# Altium schematic symbol library 中央处理器.SchLib: 12 symbols
Pins are listed as number, name and electrical type; pins without a type are passive.

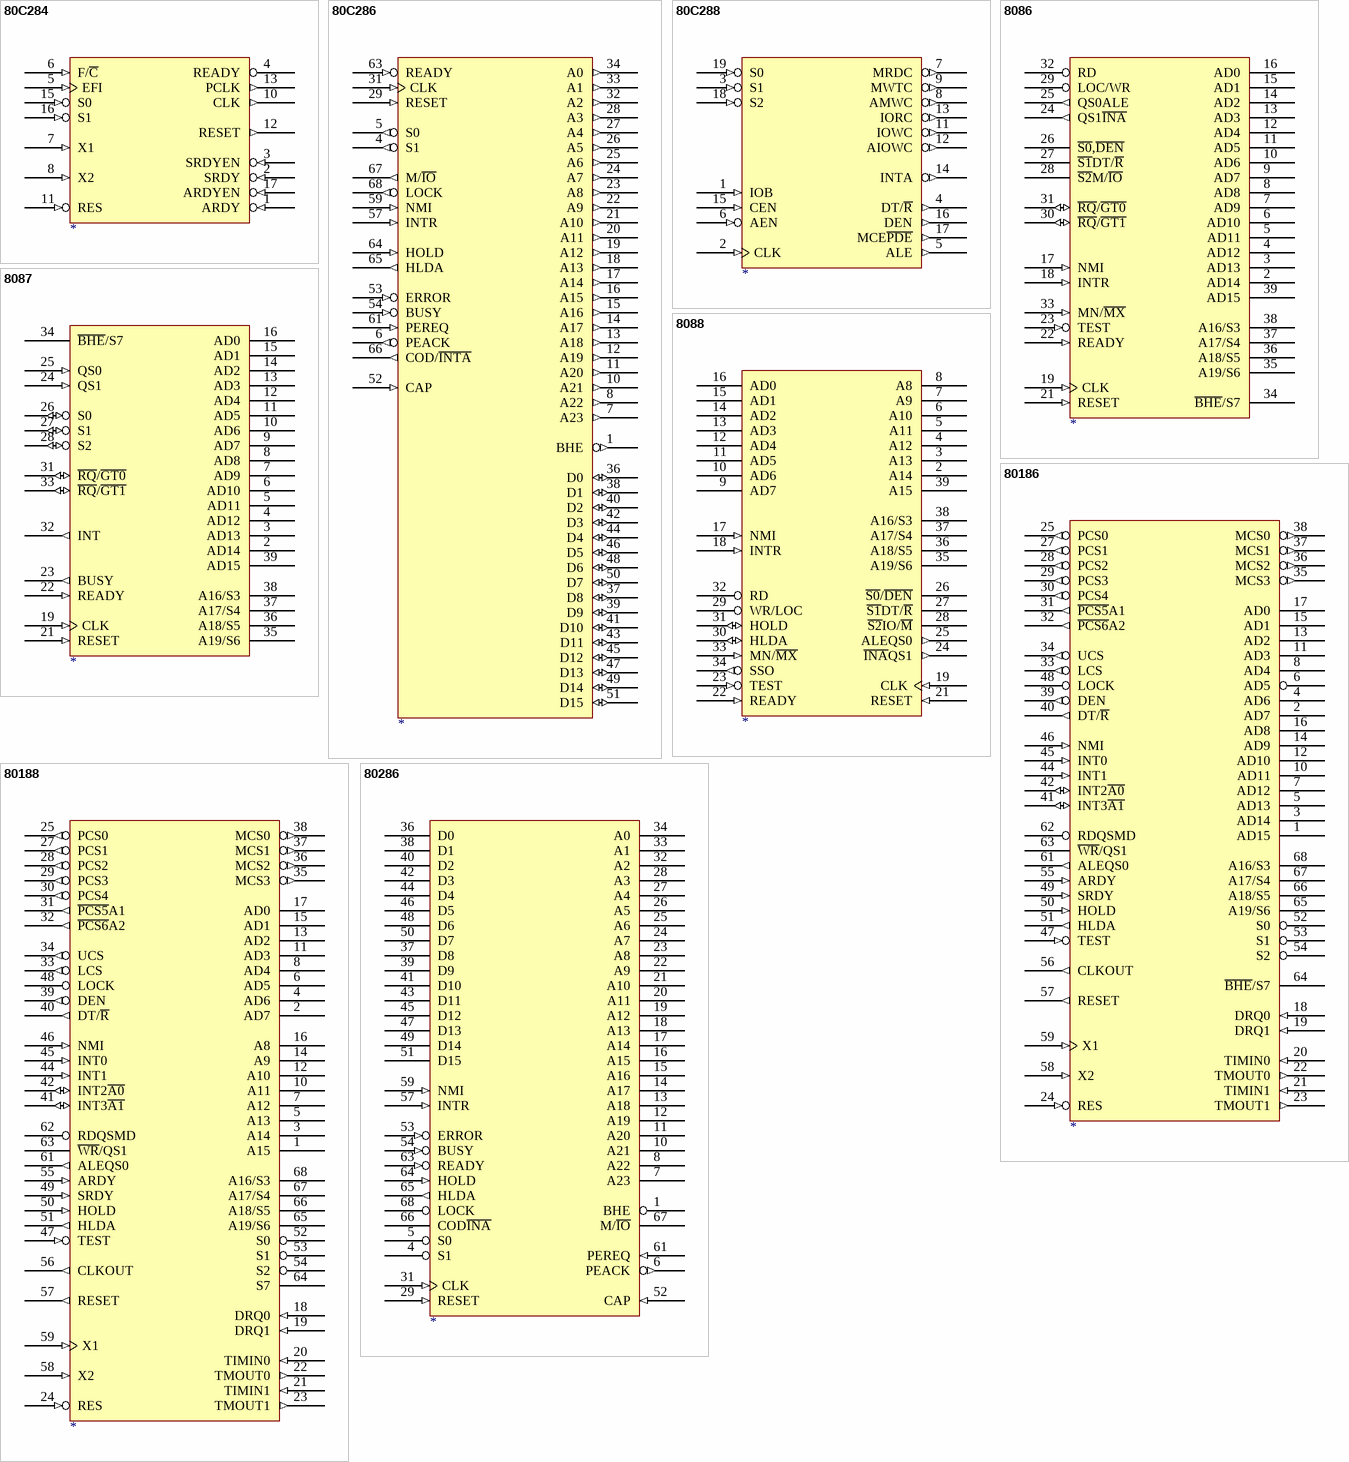
[diagram p0: symbols 80C284 to 80286]

## 80C284
designator ?
pins: 1 ARDY (in), 2 SRDY (in), 3 SRDYEN (in), 4 READY (oc), 5 EFI (in), 6 F/~{C} (in), 7 X1 (in), 8 X2 (in), 10 CLK (out), 11 RES (in), 12 RESET (out), 13 PCLK (out), 15 S0 (in), 16 S1 (in), 17 ARDYEN (in)

## 80C286
designator ?
pins: 1 BHE (out), 4 S1 (out), 5 S0 (out), 6 PEACK (out), 7 A23 (out), 8 A22 (out), 10 A21 (out), 11 A20 (out), 12 A19 (out), 13 A18 (out), 14 A17 (out), 15 A16 (out), 16 A15 (out), 17 A14 (out), 18 A13 (out), 19 A12 (out), 20 A11 (out), 21 A10 (out), 22 A9 (out), 23 A8 (out), 24 A7 (out), 25 A6 (out), 26 A5 (out), 27 A4 (out), 28 A3 (out), 29 RESET (in), 31 CLK (in), 32 A2 (out), 33 A1 (out), 34 A0 (out), 36 D0 (io), 37 D8 (io), 38 D1 (io), 39 D9 (io), 40 D2 (io), 41 D10 (io), 42 D3 (io), 43 D11 (io), 44 D4 (io), 45 D12 (io), 46 D5 (io), 47 D13 (io), 48 D6 (io), 49 D14 (io), 50 D7 (io), 51 D15 (io), 52 CAP (in), 53 ERROR (in), 54 BUSY (in), 57 INTR (in), 59 NMI (in), 61 PEREQ (in), 63 READY (in), 64 HOLD (in), 65 HLDA (out), 66 COD/~{INTA} (out), 67 M/~{IO} (out), 68 LOCK (out)

## 80C288
designator ?
pins: 1 IOB (in), 2 CLK (in), 3 S1 (in), 4 DT/~{R} (out), 5 ALE (out), 6 AEN (in), 7 MRDC (out), 8 AMWC (out), 9 MWTC (out), 11 IOWC (out), 12 AIOWC (out), 13 IORC (out), 14 INTA (out), 15 CEN (in), 16 DEN (out), 17 MCE~{PDE} (out), 18 S2 (in), 19 S0 (in)

## 8086
designator ?
pins: 2 AD14 (hiz), 3 AD13 (hiz), 4 AD12 (hiz), 5 AD11 (hiz), 6 AD10 (hiz), 7 AD9 (hiz), 8 AD8 (hiz), 9 AD7 (hiz), 10 AD6 (hiz), 11 AD5 (hiz), 12 AD4 (hiz), 13 AD3 (hiz), 14 AD2 (hiz), 15 AD1 (hiz), 16 AD0 (hiz), 17 NMI (in), 18 INTR (in), 19 CLK (in), 21 RESET (in), 22 READY (in), 23 TEST (in), 24 QS1~{INA} (out), 25 QS0ALE (out), 26 ~{S0},~{DEN} (hiz), 27 ~{S1}DT/~{R} (hiz), 28 ~{S2}M/~{IO} (hiz), 29 LOC/WR (hiz), 30 ~{RQ}/~{GT1} (io), 31 ~{RQ}/~{GT0} (io), 32 RD (hiz), 33 MN/~{MX} (in), 34 ~{BHE}/S7 (hiz), 35 A19/S6 (hiz), 36 A18/S5 (hiz), 37 A17/S4 (hiz), 38 A16/S3 (hiz), 39 AD15 (hiz)

## 8087
designator ?
pins: 2 AD14 (hiz), 3 AD13 (hiz), 4 AD12 (hiz), 5 AD11 (hiz), 6 AD10 (hiz), 7 AD9 (hiz), 8 AD8 (hiz), 9 AD7 (hiz), 10 AD6 (hiz), 11 AD5 (hiz), 12 AD4 (hiz), 13 AD3 (hiz), 14 AD2 (hiz), 15 AD1 (hiz), 16 AD0 (hiz), 19 CLK (in), 21 RESET (in), 22 READY (in), 23 BUSY (out), 24 QS1 (in), 25 QS0 (in), 26 S0 (io), 27 S1 (io), 28 S2 (io), 31 ~{RQ}/~{GT0} (io), 32 INT (out), 33 ~{RQ}/~{GT1} (io), 34 ~{BHE}/S7 (hiz), 35 A19/S6 (hiz), 36 A18/S5 (hiz), 37 A17/S4 (hiz), 38 A16/S3 (hiz), 39 AD15 (hiz)

## 8088
designator ?
pins: 1 GND (power) hidden to GND, 2 A14 (hiz), 3 A13 (hiz), 4 A12 (hiz), 5 A11 (hiz), 6 A10 (hiz), 7 A9 (hiz), 8 A8 (hiz), 9 AD7 (hiz), 10 AD6 (hiz), 11 AD5 (hiz), 12 AD4 (hiz), 13 AD3 (hiz), 14 AD2 (hiz), 15 AD1 (hiz), 16 AD0 (hiz), 17 NMI (in), 18 INTR (in), 19 CLK (in), 20 GND (power) hidden to GND, 21 RESET (in), 22 READY (in), 23 TEST (in), 24 ~{INA}QS1 (out), 25 ALEQS0 (out), 26 ~{S0}/~{DEN} (hiz), 27 ~{S1}DT/~{R} (hiz), 28 ~{S2}IO/~{M} (hiz), 29 WR/LOC (hiz), 30 HLDA (io), 31 HOLD (io), 32 RD (hiz), 33 MN/~{MX} (in), 34 SSO (out), 35 A19/S6 (hiz), 36 A18/S5 (hiz), 37 A17/S4 (hiz), 38 A16/S3 (hiz), 39 A15 (hiz)

## 80186
designator ?
pins: 1 AD15 (hiz), 2 AD7 (hiz), 3 AD14 (hiz), 4 AD6 (hiz), 5 AD13 (hiz), 6 AD5 (hiz), 7 AD12 (hiz), 8 AD4 (hiz), 10 AD11 (hiz), 11 AD3 (hiz), 12 AD10 (hiz), 13 AD2 (hiz), 14 AD9 (hiz), 15 AD1 (hiz), 16 AD8 (hiz), 17 AD0 (hiz), 18 DRQ0 (in), 19 DRQ1 (in), 20 TIMIN0 (in), 21 TIMIN1 (in), 22 TMOUT0 (out), 23 TMOUT1 (out), 24 RES (in), 25 PCS0 (out), 27 PCS1 (out), 28 PCS2 (out), 29 PCS3 (out), 30 PCS4 (out), 31 ~{PCS5}A1 (out), 32 ~{PCS6}A2 (out), 33 LCS (out), 34 UCS (out), 35 MCS3 (out), 36 MCS2 (out), 37 MCS1 (out), 38 MCS0 (out), 39 DEN (out), 40 DT/~{R} (out), 41 INT3~{A1} (io), 42 INT2~{A0} (io), 44 INT1 (in), 45 INT0 (in), 46 NMI (in), 47 TEST (in), 48 LOCK (hiz), 49 SRDY (in), 50 HOLD (in), 51 HLDA (out), 52 S0 (hiz), 53 S1 (hiz), 54 S2 (hiz), 55 ARDY (in), 56 CLKOUT (out), 57 RESET (out), 58 X2 (in), 59 X1 (in), 61 ALEQS0 (out), 62 RDQSMD (hiz), 63 ~{WR}/QS1 (hiz), 64 ~{BHE}/S7 (hiz), 65 A19/S6 (hiz), 66 A18/S5 (hiz), 67 A17/S4 (hiz), 68 A16/S3 (hiz)

## 80188
designator ?
pins: 1 A15 (hiz), 2 AD7 (hiz), 3 A14 (hiz), 4 AD6 (hiz), 5 A13 (hiz), 6 AD5 (hiz), 7 A12 (hiz), 8 AD4 (hiz), 9 VCC (power) hidden to VCC, 10 A11 (hiz), 11 AD3 (hiz), 12 A10 (hiz), 13 AD2 (hiz), 14 A9 (hiz), 15 AD1 (hiz), 16 A8 (hiz), 17 AD0 (hiz), 18 DRQ0 (in), 19 DRQ1 (in), 20 TIMIN0 (in), 21 TIMIN1 (in), 22 TMOUT0 (out), 23 TMOUT1 (out), 24 RES (in), 25 PCS0 (out), 26 GND (power) hidden to GND, 27 PCS1 (out), 28 PCS2 (out), 29 PCS3 (out), 30 PCS4 (out), 31 ~{PCS5}A1 (out), 32 ~{PCS6}A2 (out), 33 LCS (out), 34 UCS (out), 35 MCS3 (out), 36 MCS2 (out), 37 MCS1 (out), 38 MCS0 (out), 39 DEN (out), 40 DT/~{R} (out), 41 INT3~{A1} (io), 42 INT2~{A0} (io), 43 VCC (power) hidden to VCC, 44 INT1 (in), 45 INT0 (in), 46 NMI (in), 47 TEST (in), 48 LOCK (hiz), 49 SRDY (in), 50 HOLD (in), 51 HLDA (out), 52 S0 (hiz), 53 S1 (hiz), 54 S2 (hiz), 55 ARDY (in), 56 CLKOUT (out), 57 RESET (out), 58 X2 (in), 59 X1 (in), 60 GND (power) hidden to GND, 61 ALEQS0 (out), 62 RDQSMD (hiz), 63 ~{WR}/QS1 (hiz), 64 S7 (hiz), 65 A19/S6 (hiz), 66 A18/S5 (hiz), 67 A17/S4 (hiz), 68 A16/S3 (hiz)

## 80286
designator ?
pins: 1 BHE (hiz), 4 S1 (hiz), 5 S0 (hiz), 6 PEACK (out), 7 A23 (hiz), 8 A22 (hiz), 10 A21 (hiz), 11 A20 (hiz), 12 A19 (hiz), 13 A18 (hiz), 14 A17 (hiz), 15 A16 (hiz), 16 A15 (hiz), 17 A14 (hiz), 18 A13 (hiz), 19 A12 (hiz), 20 A11 (hiz), 21 A10 (hiz), 22 A9 (hiz), 23 A8 (hiz), 24 A7 (hiz), 25 A6 (hiz), 26 A5 (hiz), 27 A4 (hiz), 28 A3 (hiz), 29 RESET (in), 31 CLK (in), 32 A2 (hiz), 33 A1 (hiz), 34 A0 (hiz), 36 D0 (hiz), 37 D8 (hiz), 38 D1 (hiz), 39 D9 (hiz), 40 D2 (hiz), 41 D10 (hiz), 42 D3 (hiz), 43 D11 (hiz), 44 D4 (hiz), 45 D12 (hiz), 46 D5 (hiz), 47 D13 (hiz), 48 D6 (hiz), 49 D14 (hiz), 50 D7 (hiz), 51 D15 (hiz), 52 CAP (in), 53 ERROR (in), 54 BUSY (in), 57 INTR (in), 59 NMI (in), 61 PEREQ (in), 63 READY (in), 64 HOLD (in), 65 HLDA (out), 66 COD~{INA} (hiz), 67 M/~{IO} (hiz), 68 LOCK (hiz)

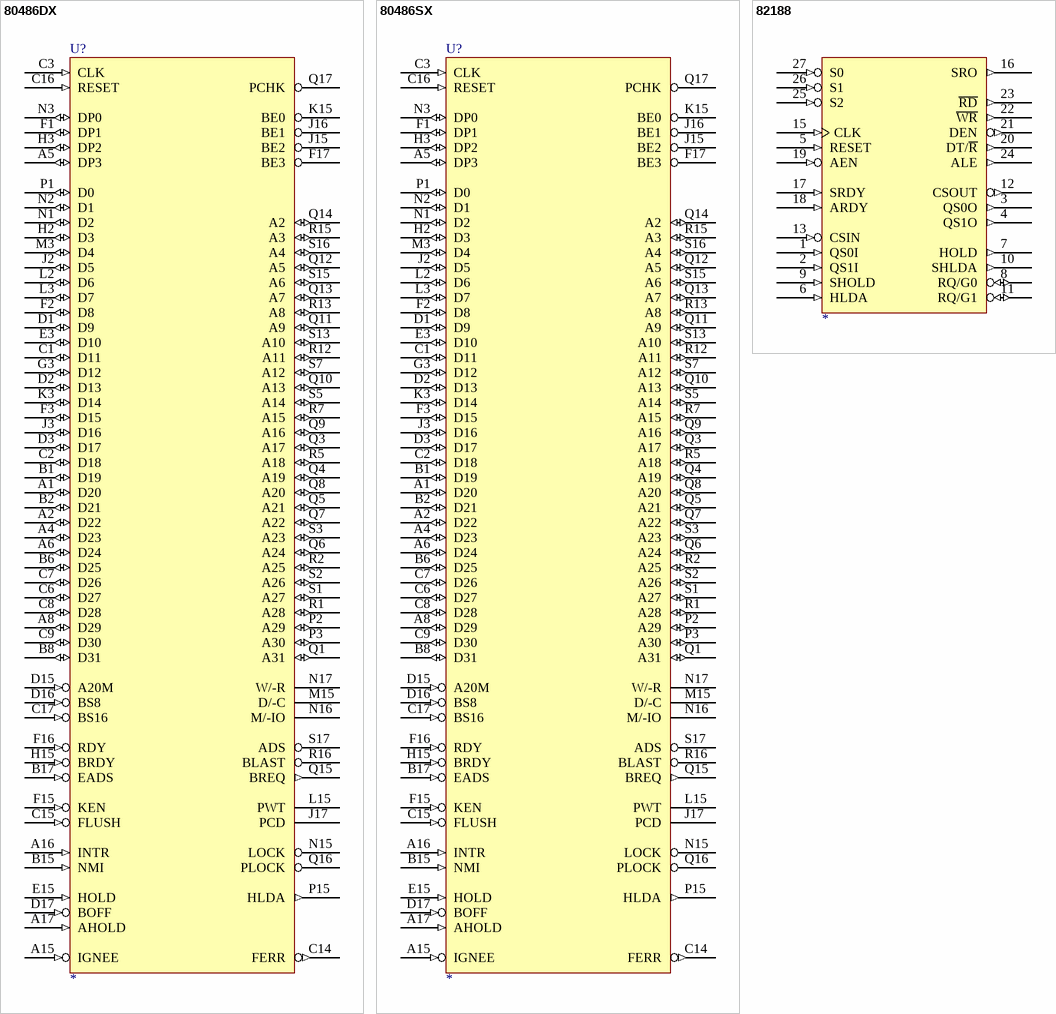
[diagram p1: symbols 80486DX to 82188]

## 80486DX
designator U?
pins: A1 D20 (io), A2 D22 (io), A4 D23 (io), A5 DP3 (io), A6 D24 (io), A7 GND (power) hidden to GND, A8 D29 (io), A9 GND (power) hidden to GND, A11 GND (power) hidden to GND, A15 IGNEE (in), A16 INTR (in), A17 AHOLD (in), B1 D19 (io), B2 D21 (io), B3 GND (power) hidden to GND, B4 GND (power) hidden to GND, B5 GND (power) hidden to GND, B6 D25 (io), B7 VCC (power) hidden to VCC, B8 D31 (io), B9 VCC (power) hidden to VCC, B11 VCC (power) hidden to VCC, B15 NMI (in), B17 EADS (in), C1 D11 (io), C2 D18 (io), C3 CLK (in), C4 VCC (power) hidden to VCC, C5 VCC (power) hidden to VCC, C6 D27 (io), C7 D26 (io), C8 D28 (io), C9 D30 (io), C14 FERR (out), C15 FLUSH (in), C16 RESET (in), C17 BS16 (in), D1 D9 (io), D2 D13 (io), D3 D17 (io), D15 A20M (in), D16 BS8 (in), D17 BOFF (in), E1 GND (power) hidden to GND, E2 VCC (power) hidden to VCC, E3 D10 (io), E15 HOLD (in), E16 VCC (power) hidden to VCC, E17 GND (power) hidden to GND, F1 DP1 (io), F2 D8 (io), F3 D15 (io), F15 KEN (in), F16 RDY (in), F17 BE3 (hiz), G1 GND (power) hidden to GND, G2 VCC (power) hidden to VCC, G3 D12 (io), G16 VCC (power) hidden to VCC, G17 GND (power) hidden to GND, H1 GND (power) hidden to GND, H2 D3 (io), H3 DP2 (io), H15 BRDY (in), H16 VCC (power) hidden to VCC, H17 GND (power) hidden to GND, J1 VCC (power) hidden to VCC, J2 D5 (io), J3 D16 (io), J15 BE2 (hiz), J16 BE1 (hiz), J17 PCD (hiz), K1 GND (power) hidden to GND, K2 VCC (power) hidden to VCC, K3 D14 (io), K15 BE0 (hiz), K16 VCC (power) hidden to VCC, K17 GND (power) hidden to GND, L1 GND (power) hidden to GND, L2 D6 (io), L3 D7 (io), L15 PWT (hiz), L16 VCC (power) hidden to VCC, M1 GND (power) hidden to GND, M2 VCC (power) hidden to VCC, M3 D4 (io), M15 D/-C (hiz), M16 VCC (power) hidden to VCC, M17 GND (power) hidden to GND, N1 D2 (io), N2 D1 (io), N3 DP0 (io), N15 LOCK (hiz), N16 M/-IO (hiz), N17 W/-R (hiz), P1 D0 (io), P2 A29 (io), P3 A30 (io), P15 HLDA (out), P16 VCC (power) hidden to VCC, P17 GND (power) hidden to GND, Q1 A31 (io), Q2 GND (power) hidden to GND, Q3 A17 (io), Q4 A19 (io), Q5 A21 (io), Q6 A24 (io), Q7 A22 (io), Q8 A20 (io), Q9 A16 (io), Q10 A13 (io), Q11 A9 (io), Q12 A5 (io), Q13 A7 (io), Q14 A2 (io), Q15 BREQ (out), Q16 PLOCK (hiz), Q17 PCHK (hiz), R1 A28 (io), R2 A25 (io), R3 VCC (power) hidden to VCC, R4 GND (power) hidden to GND, R5 A18 (io), R6 VCC (power) hidden to VCC, R7 A15 (io), R8 VCC (power) hidden to VCC, R9 VCC (power) hidden to VCC, R10 VCC (power) hidden to VCC, R11 VCC (power) hidden to VCC, R12 A11 (io), R13 A8 (io), R14 VCC (power) hidden to VCC, R15 A3 (io), R16 BLAST (hiz), S1 A27 (io), S2 A26 (io), S3 A23 (io), S5 A14 (io), S6 GND (power) hidden to GND, S7 A12 (io), S8 GND (power) hidden to GND, S9 GND (power) hidden to GND, S10 GND (power) hidden to GND, S11 GND (power) hidden to GND, S12 GND (power) hidden to GND, S13 A10 (io), S14 GND (power) hidden to GND, S15 A6 (io), S16 A4 (io), S17 ADS (hiz)

## 80486SX
designator U?
pins: A1 D20 (io), A2 D22 (io), A4 D23 (io), A5 DP3 (io), A6 D24 (io), A7 GND (power) hidden to GND, A8 D29 (io), A9 GND (power) hidden to GND, A11 GND (power) hidden to GND, A15 IGNEE (in), A16 INTR (in), A17 AHOLD (in), B1 D19 (io), B2 D21 (io), B3 GND (power) hidden to GND, B4 GND (power) hidden to GND, B5 GND (power) hidden to GND, B6 D25 (io), B7 VCC (power) hidden to VCC, B8 D31 (io), B9 VCC (power) hidden to VCC, B11 VCC (power) hidden to VCC, B15 NMI (in), B17 EADS (in), C1 D11 (io), C2 D18 (io), C3 CLK (in), C4 VCC (power) hidden to VCC, C5 VCC (power) hidden to VCC, C6 D27 (io), C7 D26 (io), C8 D28 (io), C9 D30 (io), C14 FERR (out), C15 FLUSH (in), C16 RESET (in), C17 BS16 (in), D1 D9 (io), D2 D13 (io), D3 D17 (io), D15 A20M (in), D16 BS8 (in), D17 BOFF (in), E1 GND (power) hidden to GND, E2 VCC (power) hidden to VCC, E3 D10 (io), E15 HOLD (in), E16 VCC (power) hidden to VCC, E17 GND (power) hidden to GND, F1 DP1 (io), F2 D8 (io), F3 D15 (io), F15 KEN (in), F16 RDY (in), F17 BE3 (hiz), G1 GND (power) hidden to GND, G2 VCC (power) hidden to VCC, G3 D12 (io), G16 VCC (power) hidden to VCC, G17 GND (power) hidden to GND, H1 GND (power) hidden to GND, H2 D3 (io), H3 DP2 (io), H15 BRDY (in), H16 VCC (power) hidden to VCC, H17 GND (power) hidden to GND, J1 VCC (power) hidden to VCC, J2 D5 (io), J3 D16 (io), J15 BE2 (hiz), J16 BE1 (hiz), J17 PCD (hiz), K1 GND (power) hidden to GND, K2 VCC (power) hidden to VCC, K3 D14 (io), K15 BE0 (hiz), K16 VCC (power) hidden to VCC, K17 GND (power) hidden to GND, L1 GND (power) hidden to GND, L2 D6 (io), L3 D7 (io), L15 PWT (hiz), L16 VCC (power) hidden to VCC, M1 GND (power) hidden to GND, M2 VCC (power) hidden to VCC, M3 D4 (io), M15 D/-C (hiz), M16 VCC (power) hidden to VCC, M17 GND (power) hidden to GND, N1 D2 (io), N2 D1 (io), N3 DP0 (io), N15 LOCK (hiz), N16 M/-IO (hiz), N17 W/-R (hiz), P1 D0 (io), P2 A29 (io), P3 A30 (io), P15 HLDA (out), P16 VCC (power) hidden to VCC, P17 GND (power) hidden to GND, Q1 A31 (io), Q2 GND (power) hidden to GND, Q3 A17 (io), Q4 A19 (io), Q5 A21 (io), Q6 A24 (io), Q7 A22 (io), Q8 A20 (io), Q9 A16 (io), Q10 A13 (io), Q11 A9 (io), Q12 A5 (io), Q13 A7 (io), Q14 A2 (io), Q15 BREQ (out), Q16 PLOCK (hiz), Q17 PCHK (hiz), R1 A28 (io), R2 A25 (io), R3 VCC (power) hidden to VCC, R4 GND (power) hidden to GND, R5 A18 (io), R6 VCC (power) hidden to VCC, R7 A15 (io), R8 VCC (power) hidden to VCC, R9 VCC (power) hidden to VCC, R10 VCC (power) hidden to VCC, R11 VCC (power) hidden to VCC, R12 A11 (io), R13 A8 (io), R14 VCC (power) hidden to VCC, R15 A3 (io), R16 BLAST (hiz), S1 A27 (io), S2 A26 (io), S3 A23 (io), S5 A14 (io), S6 GND (power) hidden to GND, S7 A12 (io), S8 GND (power) hidden to GND, S9 GND (power) hidden to GND, S10 GND (power) hidden to GND, S11 GND (power) hidden to GND, S12 GND (power) hidden to GND, S13 A10 (io), S14 GND (power) hidden to GND, S15 A6 (io), S16 A4 (io), S17 ADS (hiz)

## 82188
designator ?
pins: 1 QS0I (in), 2 QS1I (in), 3 QS0O (out), 4 QS1O (out), 5 RESET (in), 6 HLDA (in), 7 HOLD (out), 8 RQ/G0 (io), 9 SHOLD (in), 10 SHLDA (out), 11 RQ/G1 (io), 12 CSOUT (out), 13 CSIN (in), 15 CLK (in), 16 SRO (out), 17 SRDY (in), 18 ARDY (in), 19 AEN (in), 20 DT/~{R} (out), 21 DEN (out), 22 ~{WR} (out), 23 ~{RD} (out), 24 ALE (out), 25 S2 (in), 26 S1 (in), 27 S0 (in)